# Altium schematic symbol library Resistor100kOhm.SchLib: 1 symbol
Pins are listed as number, name and electrical type; pins without a type are passive.

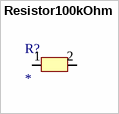
[diagram p0: symbol Resistor100kOhm]

## Resistor100kOhm
designator R?
pins: 1 (power), 2 (power)